# EAGLE library part SPECTROMETER-AS726X (library FlashPCB_Sensors)
AS726x - 6-Channel NIR Spectral_ID Device with Electronic Shutter and Smart Interface Technical Specifications: Wavelength:600nm to 870nm with full-width half-max (FWHM) of 20nm Component Search: AS7263 <https://www.flashpcb.com/components> Datasheet: AS7262_DS000486_2-00.pdf <https://ams.com/documents/20143/36005/AS7263_DS000476_4-00.pdf>
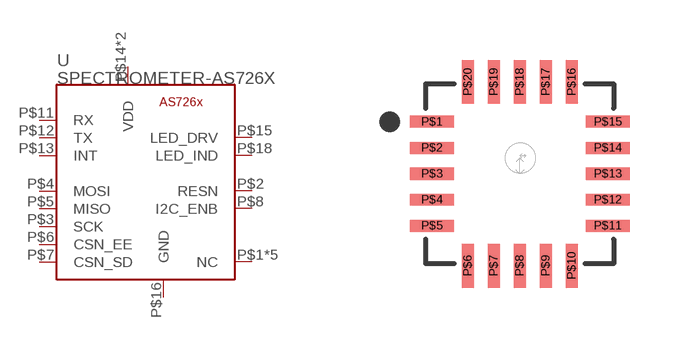
[diagram p24: symbol with the pads of 20-LGA-AS7XXX; footprint 20-LGA-AS7XXX]

Designator prefix U

## SPECTROMETER-AS726X  [20-LGA-AS7XXX]
P$1  NC  nc
P$2  RESN
P$3  SCK
P$4  MOSI
P$5  MISO
P$6  CSN_EE
P$7  CSN_SD
P$8  I2C_ENB
P$9  NC  nc
P$10  NC  nc
P$11  RX
P$12  TX
P$13  INT
P$14  VDD  pwr
P$15  LED_DRV
P$16  GND  pwr
P$17  VDD  pwr
P$18  LED_IND
P$19  NC  nc
P$20  NC  nc

## Footprint 20-LGA-AS7XXX (pad centres in mm)
smd 1.1 x 0.3: P$1 -2.2,1.3; P$2 -2.2,0.65; P$3 -2.2,0; P$4 -2.2,-0.65; P$5 -2.2,-1.3; P$11 2.2,-1.3; P$12 2.2,-0.65; P$13 2.2,0; P$14 2.2,0.65; P$15 2.2,1.3
smd 0.3 x 1.1: P$6 -1.3,-2.3; P$7 -0.65,-2.3; P$8 0,-2.3; P$9 0.65,-2.3; P$10 1.3,-2.3; P$16 1.3,2.3; P$17 0.65,2.3; P$18 0,2.3; P$19 -0.65,2.3; P$20 -1.3,2.3